# EAGLE library part MSTBA6 (library con-phoenix-500-MSTBA6)
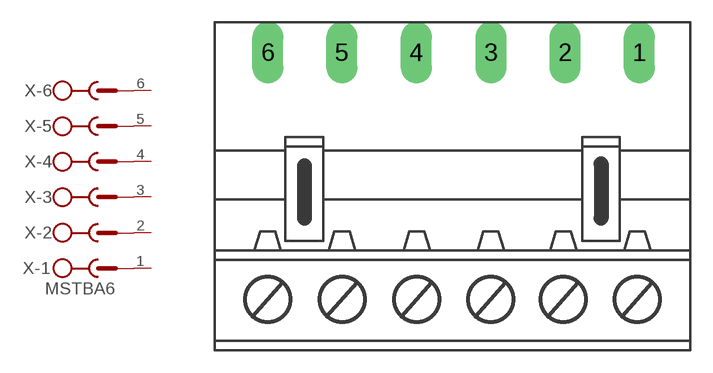
[diagram p0: symbol with the pads of MSTBA6; footprint MSTBA6]

Designator prefix X; gates -1=SK+V -2=SK -3=SK -4=SK -5=SK -6=SK

## MSTBA6  [MSTBA6]
1  -1:SK  pas
2  -2:SK  pas
3  -3:SK  pas
4  -4:SK  pas
5  -5:SK  pas
6  -6:SK  pas

## Footprint MSTBA6 (pad centres in mm)
drill 1.397 long: 1 7.537,7.62; 2 2.541,7.62; 3 -2.429,7.62; 4 -7.451,7.62; 5 -12.473,7.62; 6 -17.444,7.62